# Altium footprint library PCB - CONNECTOR - PHOENIX 1725656.PCBLIB: 1 footprints
Each footprint in its own frame and in the unit in brackets; x right, y up, seen from the top. Pads: shape width x height; smd on the part's side, far side on the other; paste and mask are expansions set on the pad; w line width, h text height; cw(c..) or ccw(c..) is an arc to the next point about the centre after c.
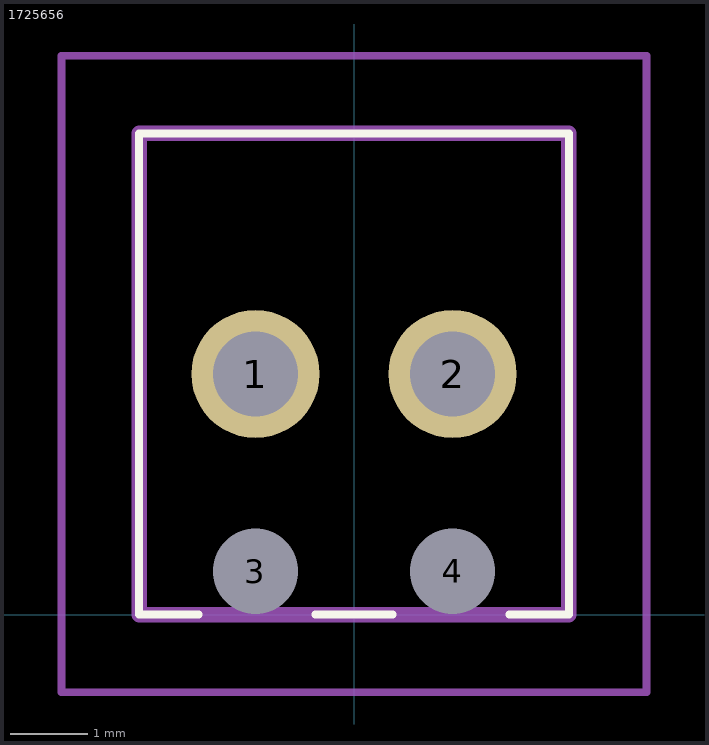
[diagram p0: the footprint, top view; thin cyan lines are the x and y axes]

## 1725656 [mm]
pads (4):
  round 1.65 hole 1.1: 1(-1.27,3.1) 2(1.27,3.1)
  round 0.55 hole 1.1 unplated: 3(-1.27,0.56) 4(1.27,0.56)
Top Overlay:
  lines w0.1: -2,0 -2.77,0 -2.77,6.2 2.77,6.2 2.77,0 2,0 ; -0.5,0 0.5,0
Top Assembly:
  lines w0.2: -2.77,0 -2.77,6.2 2.77,6.2 2.77,0 -2.77,0
Top Courtyard:
  lines w0.1: -3.77,-1 -3.77,7.2 3.77,7.2 3.77,-1 -3.77,-1
Top Designator:
  text ".Designator" at -4.35,7.65 h1.2
Top Value (Mech13):
  text ".Value" at -4.45,9.15 h1.2
3D body "1725656.stp": height 8, standoff -5, extent -2.77,0 2.77,6.2